# Altium schematic symbol library Schlib1.SchLib: 2 symbols
Pins are listed as number, name and electrical type; pins without a type are passive.

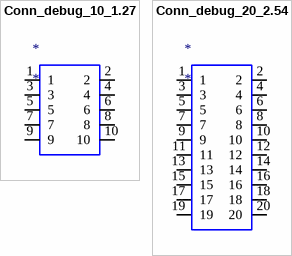
[diagram p0: symbols Conn_debug_10_1.27 to Conn_debug_20_2.54]

## Conn_debug_10_1.27
designator *
pins: 1, 2, 3, 4, 5, 6, 7, 8, 9, 10

## Conn_debug_20_2.54
designator *
pins: 1 (power), 2 (power), 3 (power), 4 (power), 5 (power), 6 (power), 7 (power), 8 (power), 9 (power), 10 (power), 11 (power), 12 (power), 13 (power), 14 (power), 15 (power), 16 (power), 17 (power), 18 (power), 19 (power), 20 (power)